# Altium schematic symbol library MTJ-883X1.SchLib: 2 symbols
Pins are listed as number, name and electrical type; pins without a type are passive.

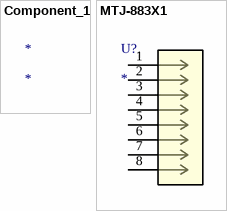
[diagram p0: symbols Component_1 to MTJ-883X1]

## Component_1
designator *

## MTJ-883X1
designator U?
No Description Available; Mfr_Name: ADAM TECHNOLOGIES INC; RefDes: RefDes; Type: Type
footprint CONN_MTJ-883X1_ADM
pins: 1, 2, 3, 4, 5, 6, 7, 8